# EAGLE library part CS8413 (library cirrus-logic)
96 kHz Digital Audio Receiver Source: http://www.cirrus.com/en/pubs/proDatasheet/8413-4.pdf
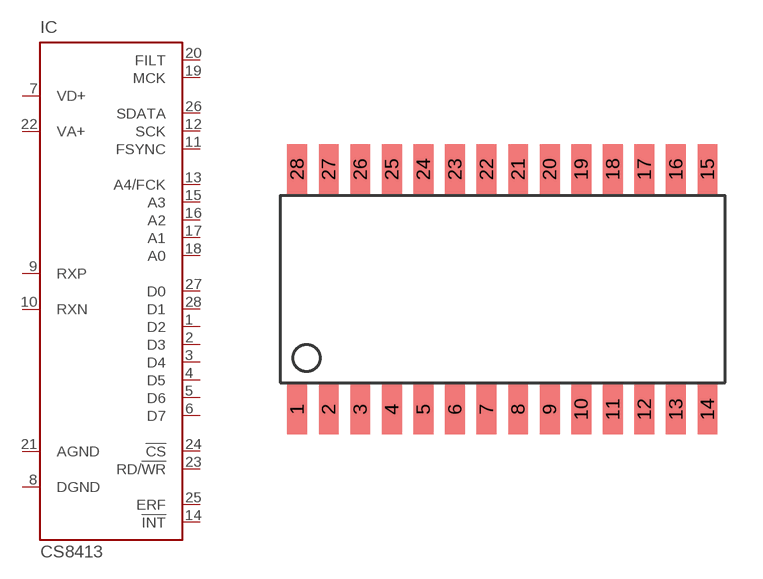
[diagram p0: symbol with the pads of SO-28L; footprint SO-28L]

Designator prefix IC

## CS8413 (MF: CIRRUS LOGIC; MPN: CS8413CS; OC_FARNELL: unknown; OC_NEWARK: 73C6130)  [SO-28L]
1  D2
2  D3
3  D4
4  D5
5  D6
6  D7
7  VD+  pwr
8  DGND  pwr
9  RXP  in
10  RXN  in
11  FSYNC
12  SCK
13  A4/FCK  in
14  !INT  out
15  A3  in
16  A2  in
17  A1  in
18  A0  in
19  MCK
20  FILT  out
21  AGND  pwr
22  VA+  in
23  RD/!WR  in
24  !CS  in
25  ERF  out
26  SDATA  out
27  D0
28  D1

## Footprint SO-28L (pad centres in mm)
Small Outline large
smd 0.8 x 2: 1 -8.255,-4.826; 2 -6.985,-4.826; 3 -5.715,-4.826; 4 -4.445,-4.826; 5 -3.175,-4.826; 6 -1.905,-4.826; 7 -0.635,-4.826; 8 0.635,-4.826; 9 1.905,-4.826; 10 3.175,-4.826; 11 4.445,-4.826; 12 5.715,-4.826; 13 6.985,-4.826; 14 8.255,-4.826; 15 8.255,4.826; 16 6.985,4.826; 17 5.715,4.826; 18 4.445,4.826; 19 3.175,4.826; 20 1.905,4.826; 21 0.635,4.826; 22 -0.635,4.826; 23 -1.905,4.826; 24 -3.175,4.826; 25 -4.445,4.826; 26 -5.715,4.826; 27 -6.985,4.826; 28 -8.255,4.826